# EAGLE library part IC5 (library CAN_BUS_Interface_v2)
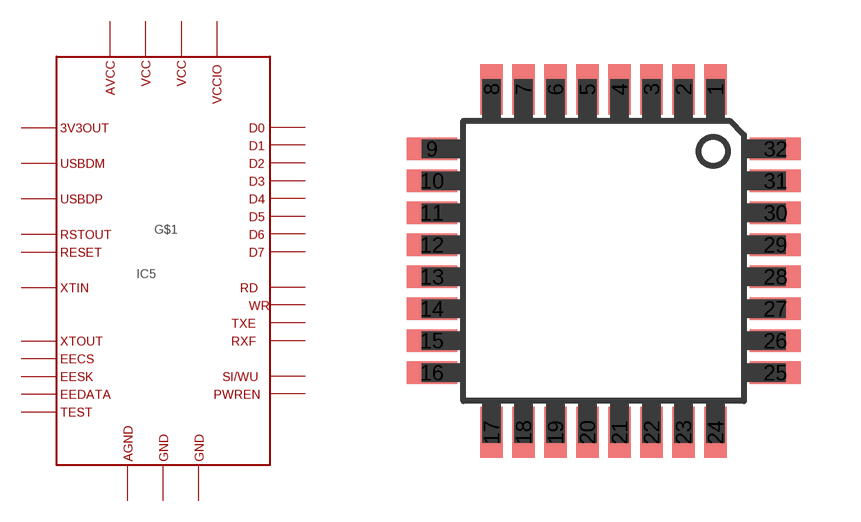
[diagram p4: symbol with the pads of IC5; footprint IC5]

Designator prefix IC

## IC5  [IC5]
1  EESK
2  EEDATA
3  VCC1  pwr
4  RESET
9  GND1  pwr
10  PWREN
11  SI/WU
12  RXF
13  VCCIO  pwr
14  TXE
15  WR
16  RD
17  GND2  pwr
18  D7
19  D6
20  D5
21  D4
22  D3
23  D2
24  D1
25  D0
26  VCC2  pwr
27  XTIN
28  XTOUT
29  AGND  pwr
30  AVCC  pwr
31  TEST
32  EECS

## Footprint IC5 (pad centres in mm)
TQFP32-08
smd 0.559 x 1.27: 1 2.8,4.293; 2 2,4.293; 3 1.2,4.293; 4 0.4,4.293; 5 -0.4,4.293; 6 -1.2,4.293; 7 -2,4.293; 8 -2.8,4.293; 17 -2.8,-4.293; 18 -2,-4.293; 19 -1.2,-4.293; 20 -0.4,-4.293; 21 0.4,-4.293; 22 1.2,-4.293; 23 2,-4.293; 24 2.8,-4.293
smd 1.27 x 0.559: 9 -4.293,2.8; 10 -4.293,2; 11 -4.293,1.2; 12 -4.293,0.4; 13 -4.293,-0.4; 14 -4.293,-1.2; 15 -4.293,-2; 16 -4.293,-2.8; 25 4.293,-2.8; 26 4.293,-2; 27 4.293,-1.2; 28 4.293,-0.4; 29 4.293,0.4; 30 4.293,1.2; 31 4.293,2; 32 4.293,2.8